# Altium footprint library LABLIB.PcbLib: 213 footprints (part 12 of 14)
Each footprint in its own frame and in the unit in brackets; x right, y up, seen from the top. Pads: shape width x height; smd on the part's side, far side on the other; paste and mask are expansions set on the pad; w line width, h text height; cw(c..) or ccw(c..) is an arc to the next point about the centre after c.
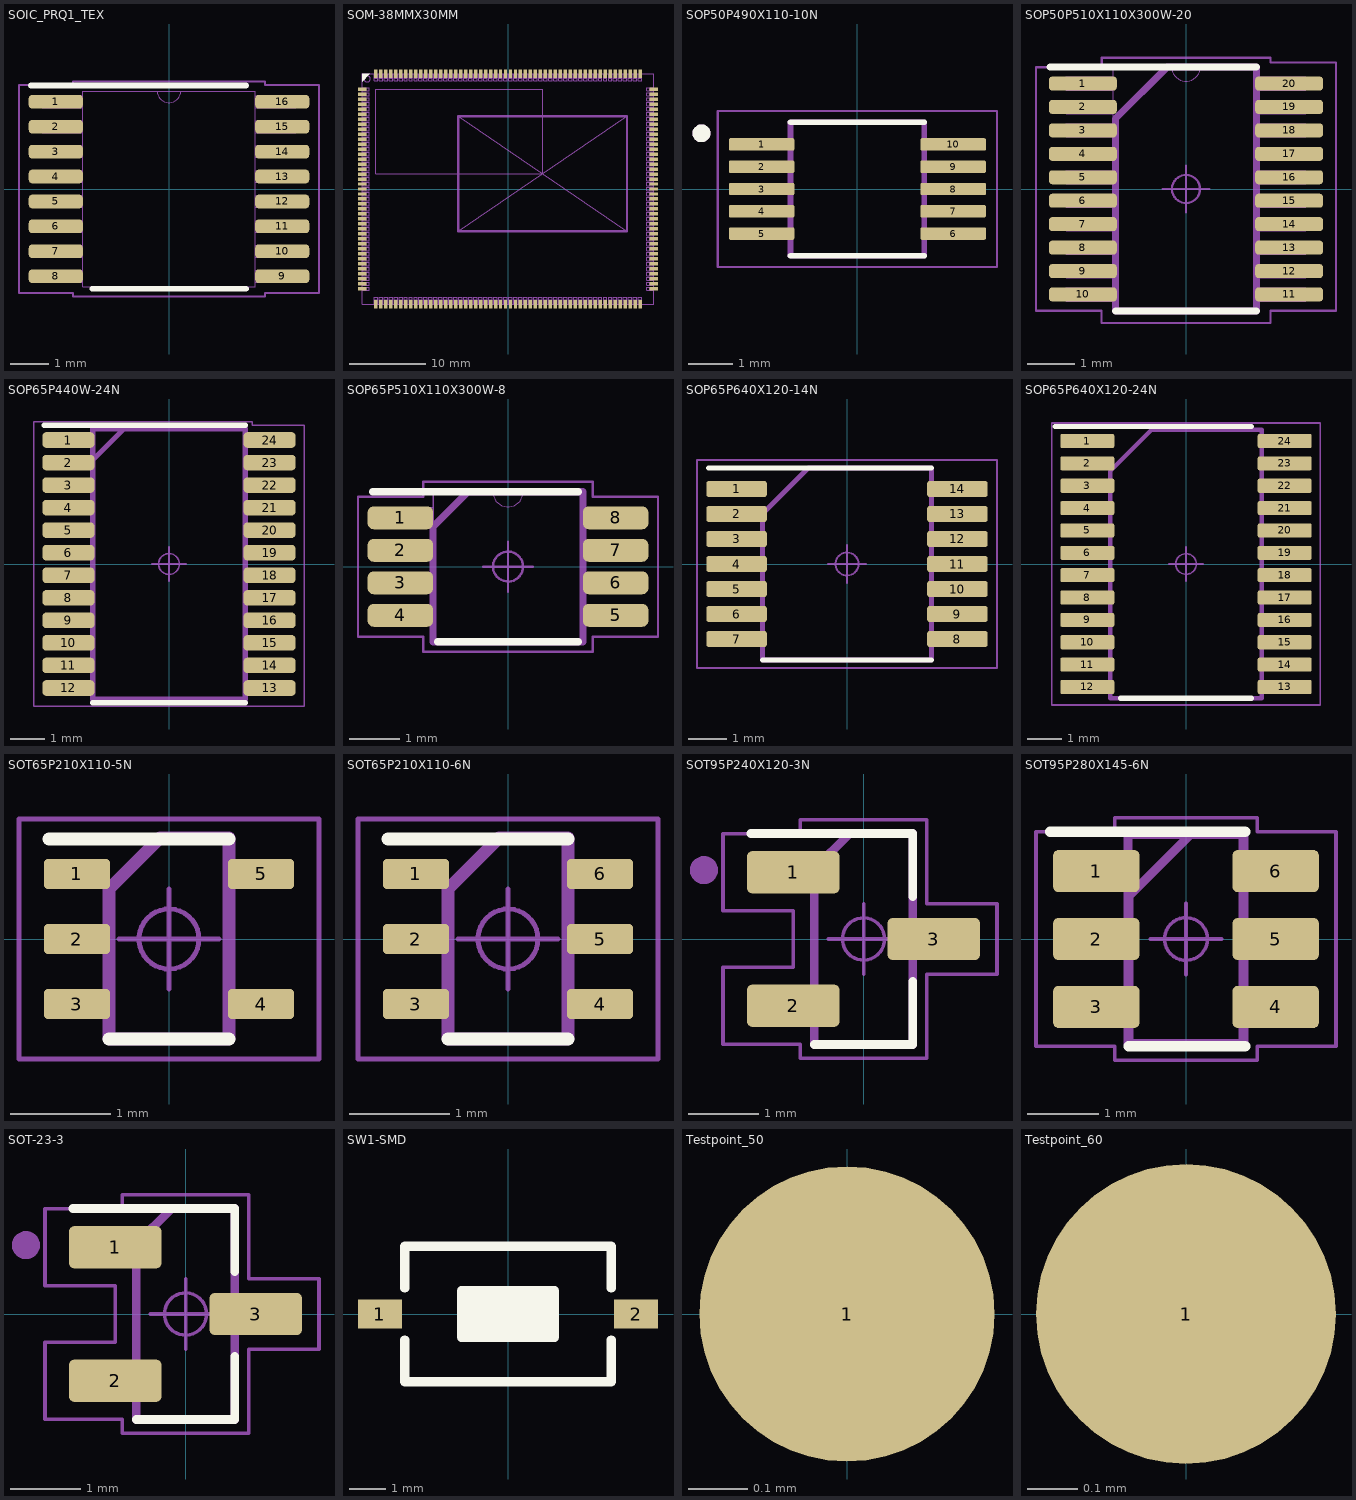
[diagram p11: the footprints below, top view; thin cyan lines are the x and y axes]

## SOIC_PRQ1_TEX [mil]
pads (16):
  rrect50% 55.5x14 smd mask+1.97: 1(-116.25,89.56) 2(-116.25,63.98) 3(-116.25,38.38) 4(-116.25,12.79) 5(-116.25,-12.79) 6(-116.25,-38.38) 7(-116.25,-63.98) 8(-116.25,-89.56) 9(116.25,-89.56) 10(116.25,-63.98) 11(116.25,-38.38) 12(116.25,-12.79) 13(116.25,12.79) 14(116.25,38.38) 15(116.25,63.98) 16(116.25,89.56)
Top Overlay:
  lines w6: -141.73,106.3 79.1,106.3 ; -78.74,-102.36 79.1,-102.36
Top Assembly:
  lines w0: -12,100.5 ccw(c0,100.5) 12,100.5
  lines w1: -130,-95.56 -130,-83.56 -88.5,-83.56 -88.5,-95.56 -130,-95.56 ; -130,-69.97 -88.5,-69.97 -88.5,-57.98 -130,-57.98 -130,-69.97 ; -130,-44.38 -130,-32.38 -88.5,-32.38 -88.5,-44.38 -130,-44.38 ; -130,-18.8 -130,-6.79 -88.5,-6.79 -88.5,-18.8 -130,-18.8 ; -130,6.79 -88.5,6.79 -88.5,18.8 -130,18.8 -130,6.79 ; -130,32.38 -130,44.38 -88.5,44.38 -88.5,32.38 -130,32.38 ; -130,57.98 -130,69.97 -88.5,69.97 -88.5,57.98 -130,57.98 ; -130,83.56 -130,95.56 -88.5,95.56 -88.5,83.56 -130,83.56 ; -88.5,-100.5 88.5,-100.5 88.5,100.5 -88.5,100.5 -88.5,-100.5 ; 88.5,-95.56 130,-95.56 130,-83.56 88.5,-83.56 88.5,-95.56 ; 88.5,-69.97 88.5,-57.98 130,-57.98 130,-69.97 88.5,-69.97 ; 88.5,-44.38 88.5,-32.38 130,-32.38 130,-44.38 88.5,-44.38 ; 88.5,-18.8 130,-18.8 130,-6.79 88.5,-6.79 88.5,-18.8 ; 88.5,6.79 88.5,18.8 130,18.8 130,6.79 88.5,6.79 ; 88.5,32.38 88.5,44.38 130,44.38 130,32.38 88.5,32.38 ; 88.5,57.98 130,57.98 130,69.97 88.5,69.97 88.5,57.98 ; 88.5,83.56 88.5,95.56 130,95.56 130,83.56 88.5,83.56
Top Courtyard:
  lines w1.97: -154,-106.56 -98.5,-106.56 -98.5,-110.5 98.5,-110.5 98.5,-106.56 154,-106.56 154,106.56 98.5,106.56 98.5,110.5 -98.5,110.5 -98.5,106.56 -154,106.56 -154,-106.56
3D body "SOIC_PRQ1_TEX.step": height 47.09, standoff 0, extent -130,-100.51 130,100.51

## SOM-38MMX30MM [mm] "190-Castellated thru-holes, 38mm x 30mm package"
pads (190):
  rect 1.1x0.45 smd mask+0.05: 1(-19,13) 2(-19,12.35) 3(-19,11.7) 4(-19,11.05) 5(-19,10.4) 6(-19,9.75) 7(-19,9.1) 8(-19,8.45) 9(-19,7.8) 10(-19,7.15) 11(-19,6.5) 12(-19,5.85) 13(-19,5.2) 14(-19,4.55) 15(-19,3.9) 16(-19,3.25) 17(-19,2.6) 18(-19,1.95) 19(-19,1.3) 20(-19,0.65) 21(-19,0) 22(-19,-0.65) 23(-19,-1.3) 24(-19,-1.95) 25(-19,-2.6) 26(-19,-3.25) 27(-19,-3.9) 28(-19,-4.55) 29(-19,-5.2) 30(-19,-5.85) 31(-19,-6.5) 32(-19,-7.15) 33(-19,-7.8) 34(-19,-8.45) 35(-19,-9.1) 36(-19,-9.75) 37(-19,-10.4) 38(-19,-11.05) 39(-19,-11.7) 40(-19,-12.35) 41(-19,-13) 96(19,-13) 97(19,-12.35) 98(19,-11.7) 99(19,-11.05) 100(19,-10.4) 101(19,-9.75) 102(19,-9.1) 103(19,-8.45) 104(19,-7.8) 105(19,-7.15) 106(19,-6.5) 107(19,-5.85) 108(19,-5.2) 109(19,-4.55) 110(19,-3.9) 111(19,-3.25) 112(19,-2.6) 113(19,-1.95) 114(19,-1.3) 115(19,-0.65) 116(19,0) 117(19,0.65) 118(19,1.3) 119(19,1.95) 120(19,2.6) 121(19,3.25) 122(19,3.9) 123(19,4.55) 124(19,5.2) 125(19,5.85) 126(19,6.5) 127(19,7.15) 128(19,7.8) 129(19,8.45) 130(19,9.1) 131(19,9.75) 132(19,10.4) 133(19,11.05) 134(19,11.7) 135(19,12.35) 136(19,13)
  rect 0.45x1.1 smd mask+0.05: 42(-17.225,-15) 43(-16.575,-15) 44(-15.925,-15) 45(-15.275,-15) 46(-14.625,-15) 47(-13.975,-15) 48(-13.325,-15) 49(-12.675,-15) 50(-12.025,-15) 51(-11.375,-15) 52(-10.725,-15) 53(-10.075,-15) 54(-9.425,-15) 55(-8.775,-15) 56(-8.125,-15) 57(-7.475,-15) 58(-6.825,-15) 59(-6.175,-15) 60(-5.525,-15) 61(-4.875,-15) 62(-4.225,-15) 63(-3.575,-15) 64(-2.925,-15) 65(-2.275,-15) 66(-1.625,-15) 67(-0.975,-15) 68(-0.325,-15) 69(0.325,-15) 70(0.975,-15) 71(1.625,-15) 72(2.275,-15) 73(2.925,-15) 74(3.575,-15) 75(4.225,-15) 76(4.875,-15) 77(5.525,-15) 78(6.175,-15) 79(6.825,-15) 80(7.475,-15) 81(8.125,-15) 82(8.775,-15) 83(9.425,-15) 84(10.075,-15) 85(10.725,-15) 86(11.375,-15) 87(12.025,-15) 88(12.675,-15) 89(13.325,-15) 90(13.975,-15) 91(14.625,-15) 92(15.275,-15) 93(15.925,-15) 94(16.575,-15) 95(17.225,-15) 137(17.225,15) 138(16.575,15) 139(15.925,15) 140(15.275,15) 141(14.625,15) 142(13.975,15) 143(13.325,15) 144(12.675,15) 145(12.025,15) 146(11.375,15) 147(10.725,15) 148(10.075,15) 149(9.425,15) 150(8.775,15) 151(8.125,15) 152(7.475,15) 153(6.825,15) 154(6.175,15) 155(5.525,15) 156(4.875,15) 157(4.225,15) 158(3.575,15) 159(2.925,15) 160(2.275,15) 161(1.625,15) 162(0.975,15) 163(0.325,15) 164(-0.325,15) 165(-0.975,15) 166(-1.625,15) 167(-2.275,15) 168(-2.925,15) 169(-3.575,15) 170(-4.225,15) 171(-4.875,15) 172(-5.525,15) 173(-6.175,15) 174(-6.825,15) 175(-7.475,15) 176(-8.125,15) 177(-8.775,15) 178(-9.425,15) 179(-10.075,15) 180(-10.725,15) 181(-11.375,15) 182(-12.025,15) 183(-12.675,15) 184(-13.325,15) 185(-13.975,15) 186(-14.625,15) 187(-15.275,15) 188(-15.925,15) 189(-16.575,15) 190(-17.225,15)
Top Overlay:
  region: -19,15 -18,15 -19,14
Top Component Center:
  drawing of 764 lines, arcs and shapes, not listed
Bottom Component Center:
  drawing of 765 lines, arcs and shapes, not listed
  text "1" at -18.35,12.775 h0.45
  text "41" at -18.35,-13.225 h0.45
  text "42" at -17.6,-14.4 h0.45
  text "95" at 16.85,-14.4 h0.45
  text "96" at 17.65,-13.225 h0.45
  text "136" at 17.35,12.775 h0.45
  text "137" at 16.725,13.9 h0.45
  text "190" at -17.725,13.9 h0.45
Mechanical 12:
  lines w0: -6.5,-5.5 15.5,9.5 ; -6.5,9.5 15.5,-5.5 ; -17.225,2 -17.225,13 4.5,13 4.5,2 -17.225,2
Mech_KEEPOUT:
  lines w0.3: -6.5,-5.5 -6.5,9.5 15.5,9.5 15.5,-5.5 -6.5,-5.5
3D body: height 0.04, standoff 0, extent -17.45,14.45 -17,15
3D body: height 0.04, standoff 0, extent -16.8,14.45 -16.35,15
3D body: height 0.04, standoff 0, extent -16.15,14.45 -15.7,15
3D body: height 0.04, standoff 0, extent -15.5,14.45 -15.05,15
3D body: height 0.04, standoff 0, extent -14.85,14.45 -14.4,15
3D body: height 0.04, standoff 0, extent -14.2,14.45 -13.75,15
3D body: height 0.04, standoff 0, extent -13.55,14.45 -13.1,15
3D body: height 0.04, standoff 0, extent -12.9,14.45 -12.45,15
3D body: height 0.04, standoff 0, extent -12.25,14.45 -11.8,15
3D body: height 0.04, standoff 0, extent -11.6,14.45 -11.15,15
3D body: height 0.04, standoff 0, extent -10.95,14.45 -10.5,15
3D body: height 0.04, standoff 0, extent -10.3,14.45 -9.85,15
3D body: height 0.04, standoff 0, extent -9.65,14.45 -9.2,15
3D body: height 0.04, standoff 0, extent -9,14.45 -8.55,15
3D body: height 0.04, standoff 0, extent -8.35,14.45 -7.9,15
3D body: height 0.04, standoff 0, extent -7.7,14.45 -7.25,15
3D body: height 0.04, standoff 0, extent -7.05,14.45 -6.6,15
3D body: height 0.04, standoff 0, extent -6.4,14.45 -5.95,15
3D body: height 0.04, standoff 0, extent -5.75,14.45 -5.3,15
3D body: height 0.04, standoff 0, extent -5.1,14.45 -4.65,15
3D body: height 0.04, standoff 0, extent -4.45,14.45 -4,15
3D body: height 0.04, standoff 0, extent -3.8,14.45 -3.35,15
3D body: height 0.04, standoff 0, extent -3.15,14.45 -2.7,15
3D body: height 0.04, standoff 0, extent -2.5,14.45 -2.05,15
3D body: height 0.04, standoff 0, extent -1.85,14.45 -1.4,15
3D body: height 0.04, standoff 0, extent -1.2,14.45 -0.75,15
3D body: height 0.04, standoff 0, extent -0.55,14.45 -0.1,15
3D body: height 0.04, standoff 0, extent 0.1,14.45 0.55,15
3D body: height 0.04, standoff 0, extent 0.75,14.45 1.2,15
3D body: height 0.04, standoff 0, extent 1.4,14.45 1.85,15
3D body: height 0.04, standoff 0, extent 2.05,14.45 2.5,15
3D body: height 0.04, standoff 0, extent 2.7,14.45 3.15,15
3D body: height 0.04, standoff 0, extent 3.35,14.45 3.8,15
3D body: height 0.04, standoff 0, extent 4,14.45 4.45,15
3D body: height 0.04, standoff 0, extent 4.65,14.45 5.1,15
3D body: height 0.04, standoff 0, extent 5.3,14.45 5.75,15
3D body: height 0.04, standoff 0, extent 5.95,14.45 6.4,15
3D body: height 0.04, standoff 0, extent 6.6,14.45 7.05,15
3D body: height 0.04, standoff 0, extent 7.25,14.45 7.7,15
3D body: height 0.04, standoff 0, extent 7.9,14.45 8.35,15
3D body: height 0.04, standoff 0, extent 8.55,14.45 9,15
3D body: height 0.04, standoff 0, extent 9.2,14.45 9.65,15
3D body: height 0.04, standoff 0, extent 9.85,14.45 10.3,15
3D body: height 0.04, standoff 0, extent 10.5,14.45 10.95,15
3D body: height 0.04, standoff 0, extent 11.15,14.45 11.6,15
3D body: height 0.04, standoff 0, extent 11.8,14.45 12.25,15
3D body: height 0.04, standoff 0, extent 12.45,14.45 12.9,15
3D body: height 0.04, standoff 0, extent 13.1,14.45 13.55,15
3D body: height 0.04, standoff 0, extent 13.75,14.45 14.2,15
3D body: height 0.04, standoff 0, extent 14.4,14.45 14.85,15
3D body: height 0.04, standoff 0, extent 15.05,14.45 15.5,15
3D body: height 0.04, standoff 0, extent 15.7,14.45 16.15,15
3D body: height 0.04, standoff 0, extent 16.35,14.45 16.8,15
3D body: height 0.04, standoff 0, extent 17,14.45 17.45,15
3D body: height 0.04, standoff 0, extent -19,-11.275 -18.45,-10.825
3D body: height 0.04, standoff 0, extent -19,-10.625 -18.45,-10.175
3D body: height 0.04, standoff 0, extent -19,-9.975 -18.45,-9.525
3D body: height 0.04, standoff 0, extent -19,-9.325 -18.45,-8.875
3D body: height 0.04, standoff 0, extent -19,-8.675 -18.45,-8.225
3D body: height 0.04, standoff 0, extent -19,-8.025 -18.45,-7.575
3D body: height 0.04, standoff 0, extent -19,-7.375 -18.45,-6.925
3D body: height 0.04, standoff 0, extent -19,-6.725 -18.45,-6.275
3D body: height 0.04, standoff 0, extent -19,-6.075 -18.45,-5.625
3D body: height 0.04, standoff 0, extent -19,-5.425 -18.45,-4.975
3D body: height 0.04, standoff 0, extent -19,-4.775 -18.45,-4.325
3D body: height 0.04, standoff 0, extent -19,-4.125 -18.45,-3.675
3D body: height 0.04, standoff 0, extent -19,-3.475 -18.45,-3.025
3D body: height 0.04, standoff 0, extent -19,-2.825 -18.45,-2.375
3D body: height 0.04, standoff 0, extent -19,-2.175 -18.45,-1.725
3D body: height 0.04, standoff 0, extent -19,-1.525 -18.45,-1.075
3D body: height 0.04, standoff 0, extent -19,-0.875 -18.45,-0.425
3D body: height 0.04, standoff 0, extent -19,-0.225 -18.45,0.225
3D body: height 0.04, standoff 0, extent -19,0.425 -18.45,0.875
3D body: height 0.04, standoff 0, extent -19,1.075 -18.45,1.525
3D body: height 0.04, standoff 0, extent -19,1.725 -18.45,2.175
3D body: height 0.04, standoff 0, extent -19,2.375 -18.45,2.825
3D body: height 0.04, standoff 0, extent -19,3.025 -18.45,3.475
3D body: height 0.04, standoff 0, extent -19,3.675 -18.45,4.125
3D body: height 0.04, standoff 0, extent -19,4.325 -18.45,4.775
3D body: height 0.04, standoff 0, extent -19,4.975 -18.45,5.425
3D body: height 0.04, standoff 0, extent -19,5.625 -18.45,6.075
3D body: height 0.04, standoff 0, extent -19,6.275 -18.45,6.725
3D body: height 0.04, standoff 0, extent -19,6.925 -18.45,7.375
3D body: height 0.04, standoff 0, extent -19,7.575 -18.45,8.025
3D body: height 0.04, standoff 0, extent -19,8.225 -18.45,8.675
3D body: height 0.04, standoff 0, extent -19,8.875 -18.45,9.325
3D body: height 0.04, standoff 0, extent -19,9.525 -18.45,9.975
3D body: height 0.04, standoff 0, extent -19,10.175 -18.45,10.625
3D body: height 0.04, standoff 0, extent -19,10.825 -18.45,11.275
3D body: height 0.04, standoff 0, extent -19,11.475 -18.45,11.925
3D body: height 0.04, standoff 0, extent -19,12.125 -18.45,12.575
3D body: height 0.04, standoff 0, extent -19,12.775 -18.45,13.225
3D body: height 0.04, standoff 0, extent -19,14 -18,15
3D body: height 0.04, standoff 0, extent -19,-11.925 -18.45,-11.475
3D body: height 0.04, standoff 0, extent -19,-12.575 -18.45,-12.125
3D body: height 0.04, standoff 0, extent -19,-13.225 -18.45,-12.775
3D body: height 0.04, standoff 0, extent 18.45,-13.225 19,-12.775
3D body: height 0.04, standoff 0, extent 18.45,-12.575 19,-12.125
3D body: height 0.04, standoff 0, extent 18.45,-11.925 19,-11.475
3D body: height 0.04, standoff 0, extent 18.45,-11.275 19,-10.825
3D body: height 0.04, standoff 0, extent 18.45,-10.625 19,-10.175
3D body: height 0.04, standoff 0, extent 18.45,-9.975 19,-9.525
3D body: height 0.04, standoff 0, extent 18.45,-9.325 19,-8.875
3D body: height 0.04, standoff 0, extent 18.45,-8.675 19,-8.225
3D body: height 0.04, standoff 0, extent 18.45,-8.025 19,-7.575
3D body: height 0.04, standoff 0, extent 18.45,-7.375 19,-6.925
3D body: height 0.04, standoff 0, extent 18.45,-6.725 19,-6.275
3D body: height 0.04, standoff 0, extent 18.45,-6.075 19,-5.625
3D body: height 0.04, standoff 0, extent 18.45,-5.425 19,-4.975
3D body: height 0.04, standoff 0, extent 18.45,-4.775 19,-4.325
3D body: height 0.04, standoff 0, extent 18.45,-4.125 19,-3.675
3D body: height 0.04, standoff 0, extent 18.45,-3.475 19,-3.025
3D body: height 0.04, standoff 0, extent 18.45,-2.825 19,-2.375
3D body: height 0.04, standoff 0, extent 18.45,-2.175 19,-1.725
3D body: height 0.04, standoff 0, extent 18.45,-1.525 19,-1.075
3D body: height 0.04, standoff 0, extent 18.45,-0.875 19,-0.425
3D body: height 0.04, standoff 0, extent 18.45,-0.225 19,0.225
3D body: height 0.04, standoff 0, extent 18.45,0.425 19,0.875
3D body: height 0.04, standoff 0, extent 18.45,1.075 19,1.525
3D body: height 0.04, standoff 0, extent 18.45,1.725 19,2.175
3D body: height 0.04, standoff 0, extent 18.45,2.375 19,2.825
3D body: height 0.04, standoff 0, extent 18.45,3.025 19,3.475
3D body: height 0.04, standoff 0, extent 18.45,3.675 19,4.125
3D body: height 0.04, standoff 0, extent 18.45,4.325 19,4.775
3D body: height 0.04, standoff 0, extent 18.45,4.975 19,5.425
3D body: height 0.04, standoff 0, extent 18.45,5.625 19,6.075
3D body: height 0.04, standoff 0, extent 18.45,6.275 19,6.725
3D body: height 0.04, standoff 0, extent 18.45,6.925 19,7.375
3D body: height 0.04, standoff 0, extent 18.45,7.575 19,8.025
3D body: height 0.04, standoff 0, extent 18.45,8.225 19,8.675
3D body: height 0.04, standoff 0, extent 18.45,8.875 19,9.325
3D body: height 0.04, standoff 0, extent 18.45,9.525 19,9.975
3D body: height 0.04, standoff 0, extent 18.45,10.175 19,10.625
3D body: height 0.04, standoff 0, extent 18.45,10.825 19,11.275
3D body: height 0.04, standoff 0, extent 18.45,11.475 19,11.925
3D body: height 0.04, standoff 0, extent 18.45,12.125 19,12.575
3D body: height 0.04, standoff 0, extent 18.45,12.775 19,13.225
3D body: height 0.04, standoff 0, extent -17.45,-15 -17,-14.45
3D body: height 0.04, standoff 0, extent -16.8,-15 -16.35,-14.45
3D body: height 0.04, standoff 0, extent -16.15,-15 -15.7,-14.45
3D body: height 0.04, standoff 0, extent -15.5,-15 -15.05,-14.45
3D body: height 0.04, standoff 0, extent -14.85,-15 -14.4,-14.45
3D body: height 0.04, standoff 0, extent -14.2,-15 -13.75,-14.45
3D body: height 0.04, standoff 0, extent -13.55,-15 -13.1,-14.45
3D body: height 0.04, standoff 0, extent -12.9,-15 -12.45,-14.45
3D body: height 0.04, standoff 0, extent -12.25,-15 -11.8,-14.45
3D body: height 0.04, standoff 0, extent -11.6,-15 -11.15,-14.45
3D body: height 0.04, standoff 0, extent -10.95,-15 -10.5,-14.45
3D body: height 0.04, standoff 0, extent -10.3,-15 -9.85,-14.45
3D body: height 0.04, standoff 0, extent -9.65,-15 -9.2,-14.45
3D body: height 0.04, standoff 0, extent -9,-15 -8.55,-14.45
3D body: height 0.04, standoff 0, extent -8.35,-15 -7.9,-14.45
3D body: height 0.04, standoff 0, extent -7.7,-15 -7.25,-14.45
3D body: height 0.04, standoff 0, extent -7.05,-15 -6.6,-14.45
3D body: height 0.04, standoff 0, extent -6.4,-15 -5.95,-14.45
3D body: height 0.04, standoff 0, extent -5.75,-15 -5.3,-14.45
3D body: height 0.04, standoff 0, extent -5.1,-15 -4.65,-14.45
3D body: height 0.04, standoff 0, extent -4.45,-15 -4,-14.45
3D body: height 0.04, standoff 0, extent -3.8,-15 -3.35,-14.45
3D body: height 0.04, standoff 0, extent -3.15,-15 -2.7,-14.45
3D body: height 0.04, standoff 0, extent -2.5,-15 -2.05,-14.45
3D body: height 0.04, standoff 0, extent -1.85,-15 -1.4,-14.45
3D body: height 0.04, standoff 0, extent -1.2,-15 -0.75,-14.45
3D body: height 0.04, standoff 0, extent -0.55,-15 -0.1,-14.45
3D body: height 0.04, standoff 0, extent 0.1,-15 0.55,-14.45
3D body: height 0.04, standoff 0, extent 0.75,-15 1.2,-14.45
3D body: height 0.04, standoff 0, extent 1.4,-15 1.85,-14.45
3D body: height 0.04, standoff 0, extent 2.05,-15 2.5,-14.45
3D body: height 0.04, standoff 0, extent 2.7,-15 3.15,-14.45
3D body: height 0.04, standoff 0, extent 3.35,-15 3.8,-14.45
3D body: height 0.04, standoff 0, extent 4,-15 4.45,-14.45
3D body: height 0.04, standoff 0, extent 4.65,-15 5.1,-14.45
3D body: height 0.04, standoff 0, extent 5.3,-15 5.75,-14.45
3D body: height 0.04, standoff 0, extent 5.95,-15 6.4,-14.45
3D body: height 0.04, standoff 0, extent 6.6,-15 7.05,-14.45
3D body: height 0.04, standoff 0, extent 7.25,-15 7.7,-14.45
3D body: height 0.04, standoff 0, extent 7.9,-15 8.35,-14.45
3D body: height 0.04, standoff 0, extent 8.55,-15 9,-14.45
3D body: height 0.04, standoff 0, extent 9.2,-15 9.65,-14.45
3D body: height 0.04, standoff 0, extent 9.85,-15 10.3,-14.45
3D body: height 0.04, standoff 0, extent 10.5,-15 10.95,-14.45
3D body: height 0.04, standoff 0, extent 11.15,-15 11.6,-14.45
3D body: height 0.04, standoff 0, extent 11.8,-15 12.25,-14.45
3D body: height 0.04, standoff 0, extent 12.45,-15 12.9,-14.45
3D body: height 0.04, standoff 0, extent 13.1,-15 13.55,-14.45
3D body: height 0.04, standoff 0, extent 13.75,-15 14.2,-14.45
3D body: height 0.04, standoff 0, extent 14.4,-15 14.85,-14.45
3D body: height 0.04, standoff 0, extent 15.05,-15 15.5,-14.45
3D body: height 0.04, standoff 0, extent 15.7,-15 16.15,-14.45
3D body: height 0.04, standoff 0, extent 16.35,-15 16.8,-14.45
3D body: height 0.04, standoff 0, extent 17,-15 17.45,-14.45
3D body "SAMA7G54-SOM.step": height 2.95, standoff -0.22, extent -19,-15 19,15

## SOP50P490X110-10N [mm]
pads (10):
  rrect25% 1.47x0.28 smd: 1(-2.15,1) 2(-2.15,0.5) 3(-2.15,0) 4(-2.15,-0.5) 5(-2.15,-1) 6(2.15,-1) 7(2.15,-0.5) 8(2.15,0) 9(2.15,0.5) 10(2.15,1)
Top Overlay:
  circle w0.2: c-3.5,1.25 r0.1
  lines w0.127: -1.5,-1.5 1.5,-1.5 ; -1.5,1.5 1.5,1.5
Mechanical 13:
  circle w0.2: c-3.5,1.25 r0.1
  lines w0.127: -1.5,-1.5 1.5,-1.5 1.5,1.5 -1.5,1.5 -1.5,-1.5
Mechanical 15:
  lines w0.05: -3.135,-1.75 3.135,-1.75 3.135,1.75 -3.135,1.75 -3.135,-1.75
3D body "step_temp.STEP": height 1.1, standoff 0, extent -2.45,-1.5 2.45,1.5

## SOP50P510X110X300W-20 [mm]
pads (20):
  rrect50% 1.45x0.3 smd paste+0 mask+0: 1(-2.2,2.25) 2(-2.2,1.75) 3(-2.2,1.25) 4(-2.2,0.75) 5(-2.2,0.25) 6(-2.2,-0.25) 7(-2.2,-0.75) 8(-2.2,-1.25) 9(-2.2,-1.75) 10(-2.2,-2.25) 11(2.2,-2.25) 12(2.2,-1.75) 13(2.2,-1.25) 14(2.2,-0.75) 15(2.2,-0.25) 16(2.2,0.25) 17(2.2,0.75) 18(2.2,1.25) 19(2.2,1.75) 20(2.2,2.25)
Top Overlay:
  lines w0.15: -2.9,2.6 1.5,2.6 ; -1.5,-2.6 1.5,-2.6
Top Assembly:
  lines w0.15: -1.5,-2.6 -1.5,1.5 -0.4,2.6 1.5,2.6 1.5,-2.6 -1.5,-2.6
  text "'.Designator'" at -3.952,-0.622 h1.5
Top Courtyard:
  lines w0.05: -3.2,-2.6 -1.803,-2.6 -1.803,-2.857 1.803,-2.857 1.803,-2.6 3.2,-2.6 3.2,2.7 1.803,2.7 1.803,2.8 -1.8,2.8 -1.8,2.6 -3.2,2.6 -3.2,-2.6
Top Component Outline:
  lines w0: -0.305,2.603 ccw(c0,2.603) 0.305,2.603
  lines w0.025: -2.553,-2.39 -1.549,-2.39 -1.549,-2.11 -2.553,-2.11 -2.553,-2.39 ; -2.553,-1.89 -1.549,-1.89 -1.549,-1.61 -2.553,-1.61 -2.553,-1.89 ; -2.553,-1.39 -1.549,-1.39 -1.549,-1.11 -2.553,-1.11 -2.553,-1.39 ; -2.553,-0.89 -1.549,-0.89 -1.549,-0.61 -2.553,-0.61 -2.553,-0.89 ; -2.553,-0.39 -2.553,-0.11 -1.549,-0.11 -1.549,-0.39 -2.553,-0.39 ; -2.553,0.11 -1.549,0.11 -1.549,0.39 -2.553,0.39 -2.553,0.11 ; -2.553,0.61 -1.549,0.61 -1.549,0.89 -2.553,0.89 -2.553,0.61 ; -2.553,1.11 -2.553,1.39 -1.549,1.39 -1.549,1.11 -2.553,1.11 ; -2.553,1.61 -1.549,1.61 -1.549,1.89 -2.553,1.89 -2.553,1.61 ; -2.553,2.11 -1.549,2.11 -1.549,2.39 -2.553,2.39 -2.553,2.11 ; -1.549,-2.603 -1.549,2.603 1.549,2.603 1.549,-2.603 -1.549,-2.603 ; 1.549,-2.39 2.553,-2.39 2.553,-2.11 1.549,-2.11 1.549,-2.39 ; 1.549,-1.89 2.553,-1.89 2.553,-1.61 1.549,-1.61 1.549,-1.89 ; 1.549,-1.39 2.553,-1.39 2.553,-1.11 1.549,-1.11 1.549,-1.39 ; 1.549,-0.89 2.553,-0.89 2.553,-0.61 1.549,-0.61 1.549,-0.89 ; 1.549,-0.39 1.549,-0.11 2.553,-0.11 2.553,-0.39 1.549,-0.39 ; 1.549,0.11 2.553,0.11 2.553,0.39 1.549,0.39 1.549,0.11 ; 1.549,0.61 2.553,0.61 2.553,0.89 1.549,0.89 1.549,0.61 ; 1.549,1.11 1.549,1.39 2.553,1.39 2.553,1.11 1.549,1.11 ; 1.549,1.61 2.553,1.61 2.553,1.89 1.549,1.89 1.549,1.61 ; 1.549,2.11 2.553,2.11 2.553,2.39 1.549,2.39 1.549,2.11
Top Component Center:
  circle w0.05: c0,0 r0.3
  lines w0.05: -0.5,0 0.5,0 ; 0,-0.5 0,0.5
3D body "DGS0020A_TEX.step": height 1.09, standoff 0, extent -2.553,-2.604 2.553,2.604

## SOP65P440W-24N [mm] "TSSOP-24 4.40mm Width"
pads (24):
  rrect50% 1.5x0.45 smd: 1(-2.9,3.575) 2(-2.9,2.925) 3(-2.9,2.275) 4(-2.9,1.625) 5(-2.9,0.975) 6(-2.9,0.325) 7(-2.9,-0.325) 8(-2.9,-0.975) 9(-2.9,-1.625) 10(-2.9,-2.275) 11(-2.9,-2.925) 12(-2.9,-3.575) 13(2.9,-3.575) 14(2.9,-2.925) 15(2.9,-2.275) 16(2.9,-1.625) 17(2.9,-0.975) 18(2.9,-0.325) 19(2.9,0.325) 20(2.9,0.975) 21(2.9,1.625) 22(2.9,2.275) 23(2.9,2.925) 24(2.9,3.575)
Top Overlay:
  lines w0.15: -3.6,4 2.2,4 ; -2.2,-4 2.2,-4
Top Assembly:
  lines w0.15: -2.2,-3.9 -2.2,3 -2.1,3.1 -1.3,3.9 2.2,3.9 2.2,-3.9 -2.2,-3.9
  text "'.Designator'" at -4.217,-0.664 h1.6
Top Courtyard:
  lines w0.05: -3.9,-4.1 -2.3,-4.1 2.4,-4.1 3.9,-4.1 3.9,4 2.4,4 2.4,4.1 -2.4,4.1 -3.6,4.1 -3.9,4.1 -3.9,-4.1
Top Component Outline:
  lines w0.15: -2.2,-3.9 -2.2,3.9 2.2,3.9 2.2,-3.9 -2.2,-3.9
Top Component Center:
  circle w0.05: c0,0 r0.3
  lines w0.05: -0.5,0 0.5,0 ; 0,-0.5 0,0.5
3D body "TCA6416APWR.step": height 1.2, standoff 0, extent -3.2,-3.9 3.2,3.9

## SOP65P510X110X300W-8 [mil]
pads (8):
  rrect50% 51.5x18 smd paste+0 mask+0: 1(-84.75,38.39) 2(-84.75,12.8) 3(-84.75,-12.8) 4(-84.75,-38.39) 5(84.75,-38.39) 6(84.75,-12.8) 7(84.75,12.8) 8(84.75,38.39)
Top Overlay:
  lines w5.91: -106.3,59.06 55.12,59.06 ; -55.12,-59.06 55.12,-59.06
Top Assembly:
  lines w5.91: -59.06,-59.06 -59.06,31.5 -31.5,59.06 59.06,59.06 59.06,-59.06 -59.06,-59.06
  text "'.Designator'" at -155.57,-24.48 h59.06
Top Courtyard:
  lines w1.97: -118.11,-55.12 -66.93,-55.12 -66.93,-66.93 66.93,-66.93 66.93,-55.12 118.11,-55.12 118.11,55.12 66.93,55.12 66.93,66.93 -66.93,66.93 -66.93,55.12 -118.11,55.12 -118.11,-55.12
Top Component Outline:
  lines w0: -12,59 ccw(c0,59) 12,59
  lines w1: -96.5,-46.39 -59,-46.39 -59,-30.39 -96.5,-30.39 -96.5,-46.39 ; -96.5,-20.8 -96.5,-4.8 -59,-4.8 -59,-20.8 -96.5,-20.8 ; -96.5,4.8 -59,4.8 -59,20.8 -96.5,20.8 -96.5,4.8 ; -96.5,30.39 -59,30.39 -59,46.39 -96.5,46.39 -96.5,30.39 ; -59,-59 59,-59 59,59 -59,59 -59,-59 ; 59,-46.39 59,-30.39 96.5,-30.39 96.5,-46.39 59,-46.39 ; 59,-20.8 59,-4.8 96.5,-4.8 96.5,-20.8 59,-20.8 ; 59,4.8 96.5,4.8 96.5,20.8 59,20.8 59,4.8 ; 59,30.39 96.5,30.39 96.5,46.39 59,46.39 59,30.39
Top Component Center:
  circle w1.97: c0,0 r11.81
  lines w1.97: -19.68,0 19.68,0 ; 0,-19.68 0,19.68
3D body "MSOP8_MS_MCH.step": height 43.11, standoff 0, extent -96.5,-59.02 96.5,59.02

## SOP65P640X120-14N [mm]
pads (14):
  rrect25% 1.57x0.41 smd: 1(-2.87,1.95) 2(-2.87,1.3) 3(-2.87,0.65) 4(-2.87,0) 5(-2.87,-0.65) 6(-2.87,-1.3) 7(-2.87,-1.95) 8(2.87,-1.95) 9(2.87,-1.3) 10(2.87,-0.65) 11(2.87,0) 12(2.87,0.65) 13(2.87,1.3) 14(2.87,1.95)
Top Overlay:
  lines w0.127: -3.6,2.5 2.2,2.5 ; -2.2,-2.5 2.2,-2.5
Top Assembly:
  lines w0.127: -2.2,-2.5 -2.2,1.3 -1,2.5 2.2,2.5 2.2,-2.5 -2.2,-2.5
  text "'.Designator'" at -3.952,-0.622 h1.5
Top Component Center:
  circle w0.05: c0,0 r0.3
  lines w0.05: -0.5,0 0.5,0 ; 0,-0.5 0,0.5
Mechanical 15:
  lines w0.05: -3.9,-2.7 3.9,-2.7 3.9,2.7 -3.9,2.7 -3.9,-2.7
3D body "step_temp.STEP": height 1.2, standoff 0, extent -3.2,-2.5 3.2,2.5

## SOP65P640X120-24N [mm]
height 1.2
pads (24):
  rrect25% 1.57x0.41 smd mask+0.05: 1(-2.87,3.575) 2(-2.87,2.925) 3(-2.87,2.275) 4(-2.87,1.625) 5(-2.87,0.975) 6(-2.87,0.325) 7(-2.87,-0.325) 8(-2.87,-0.975) 9(-2.87,-1.625) 10(-2.87,-2.275) 11(-2.87,-2.925) 12(-2.87,-3.575) 13(2.87,-3.575) 14(2.87,-2.925) 15(2.87,-2.275) 16(2.87,-1.625) 17(2.87,-0.975) 18(2.87,-0.325) 19(2.87,0.325) 20(2.87,0.975) 21(2.87,1.625) 22(2.87,2.275) 23(2.87,2.925) 24(2.87,3.575)
Top Overlay:
  lines w0.15: -3.8,4 1.9,4 ; -1.9,-3.9 1.9,-3.9
Top Assembly:
  lines w0.127: -2.2,-3.9 2.2,-3.9 2.2,3.9 -1,3.9 -2.2,2.7 -2.2,-3.9
  text "'.Designator'" at -3.952,-0.622 h1.5
Top Courtyard:
  lines w0.05: -3.9,-4.1 -3.9,4.1 3.9,4.1 3.9,-4.1 -3.9,-4.1
Top Component Center:
  circle w0.05: c0,0 r0.3
  lines w0.05: -0.5,0 0.5,0 ; 0,-0.5 0,0.5
3D body "step_temp.STEP": height 1.2, standoff 0, extent -3.2,-3.9 3.2,3.9

## SOT65P210X110-5N [mm]
pads (5):
  rrect25% 0.66x0.3 smd: 1(-0.92,0.65) 2(-0.92,0) 3(-0.92,-0.65) 4(0.92,-0.65) 5(0.92,0.65)
Top Overlay:
  lines w0.127: -1.2,1 0.6,1 ; -0.6,-1 0.6,-1
Top Assembly:
  lines w0.127: -0.6,-1 0.6,-1 0.6,1.009 -0.091,1.009 -0.6,0.5 -0.6,-1
  text "'.Designator'" at -3.952,-0.624 h1.5
Top Courtyard:
  lines w0.05: -1.5,-1.2 1.5,-1.2 1.5,1.2 -1.5,1.2 -1.5,-1.2
Top Component Center:
  circle w0.05: c0,0 r0.3
  lines w0.05: -0.5,0 0.5,0 ; 0,-0.5 0,0.5
3D body "step_temp.STEP": height 1.1, standoff 0, extent -1.05,-1 1.05,1

## SOT65P210X110-6N [mm]
pads (6):
  rrect25% 0.66x0.3 smd: 1(-0.92,0.65) 2(-0.92,0) 3(-0.92,-0.65) 4(0.92,-0.65) 5(0.92,0) 6(0.92,0.65)
Top Overlay:
  lines w0.127: -1.2,1 0.6,1 ; -0.6,-1 0.6,-1
Top Assembly:
  lines w0.127: -0.6,-1 -0.6,0.5 -0.091,1.009 0.6,1.009 0.6,-1 -0.6,-1
  text "'.Designator'" at -3.952,-0.624 h1.5
Top Courtyard:
  lines w0.05: -1.5,-1.2 -1.5,1.2 1.5,1.2 1.5,-1.2 -1.5,-1.2
Top Component Center:
  circle w0.05: c0,0 r0.3
  lines w0.05: -0.5,0 0.5,0 ; 0,-0.5 0,0.5
3D body "User Library-SC88-6.step": height 1.1, standoff 0, extent -1.1,-1 1.1,1

## SOT95P240X120-3N [mm]
height 1.2
pads (3):
  rrect25% 1.32x0.6 smd: 1(-1,0.95) 2(-1,-0.95) 3(1,0)
Top Overlay:
  lines w0.125: -1.6,1.5 0.6,1.5 0.7,1.5 0.7,0.6 ; -0.7,-1.5 0.7,-1.5 0.7,-0.6
Top Assembly:
  lines w0.125: -0.7,-1.5 0.7,-1.5 0.7,1.5 -0.2,1.5 -0.7,1 -0.7,-1.5
  text "'.Designator'" at -3.952,-0.622 h1.5
Top Courtyard:
  lines w0.05: -2,-1.5 -2,-0.4 -1,-0.4 -1,0.4 -2,0.4 -2,1.5 -0.9,1.5 -0.9,1.7 0.9,1.7 0.9,0.5 1.9,0.5 1.9,-0.5 0.9,-0.5 0.9,-1.7 -0.9,-1.7 -0.9,-1.5 -2,-1.5
Top Component Center:
  circle w0.05: c0,0 r0.3
  lines w0.05: -0.5,0 0.5,0 ; 0,-0.5 0,0.5
Mechanical 13:
  circle w0.2: c-2.27,0.98 r0.1
3D body "step_temp.STEP": height 1.2, standoff -0.1, extent -1.3,-1.52 1.3,1.52

## SOT95P280X145-6N [mm]
pads (6):
  rrect25% 1.21x0.59 smd: 1(-1.255,0.95) 2(-1.255,0) 3(-1.255,-0.95) 4(1.255,-0.95) 5(1.255,0) 6(1.255,0.95)
Top Overlay:
  lines w0.15: -1.9,1.5 0.825,1.5 ; -0.8,-1.5 0.825,-1.5
Top Assembly:
  lines w0.125: -0.8,-1.5 -0.8,0.6 0.1,1.5 0.8,1.5 0.8,-1.5 -0.8,-1.5
  text "'.Designator'" at -3.952,-0.622 h1.5
Top Courtyard:
  lines w0.05: -2.1,-1.5 -2.1,1.3 -2.1,1.5 -1,1.5 -1,1.7 1,1.7 1,1.5 2.1,1.5 2.1,-1.5 1,-1.5 1,-1.7 -1,-1.7 -1,-1.5 -2.1,-1.5
Top Component Center:
  circle w0.05: c0,0 r0.3
  lines w0.05: -0.5,0 0.5,0 ; 0,-0.5 0,0.5
Mechanical 13:
  lines w0.127: -0.813,-1.462 0.813,-1.462 0.813,1.462 -0.813,1.462 -0.813,-1.462
3D body "step_temp.STEP": height 1.4, standoff -0.05, extent -1.4,-1.462 1.4,1.462

## SOT-23-3 [mm]
height 2.6
pads (3):
  rrect25% 1.32x0.6 smd: 1(-1,0.95) 2(-1,-0.95) 3(1,0)
Top Overlay:
  lines w0.125: -1.6,1.5 0.6,1.5 0.7,1.5 0.7,0.6 ; -0.7,-1.5 0.7,-1.5 0.7,-0.6
Top Assembly:
  lines w0.125: -0.7,-1.5 -0.7,1 -0.2,1.5 0.7,1.5 0.7,-1.5 -0.7,-1.5
  text "'.Designator'" at -3.952,-0.622 h1.5
Top Courtyard:
  lines w0.05: -2,-1.5 -0.9,-1.5 -0.9,-1.7 0.9,-1.7 0.9,-0.5 1.9,-0.5 1.9,0.5 0.9,0.5 0.9,1.7 -0.9,1.7 -0.9,1.5 -2,1.5 -2,0.4 -1,0.4 -1,-0.4 -2,-0.4 -2,-1.5
Top Component Center:
  circle w0.05: c0,0 r0.3
  lines w0.05: -0.5,0 0.5,0 ; 0,-0.5 0,0.5
Mechanical 13:
  circle w0.2: c-2.27,0.98 r0.1
3D body "step_temp.STEP": height 1.2, standoff -0.1, extent -1.3,-1.52 1.3,1.52

## SW1-SMD [mm]
pads (2):
  rect 1.2x0.8 smd: 1(-3.5,0) 2(3.5,0)
Top Overlay:
  rectangle: -1.27,-0.635 1.27,0.635
  lines w0.254: -2.819,-0.711 -2.819,-1.854 2.819,-1.854 2.819,-0.711 ; -2.819,0.711 -2.819,1.854 2.819,1.854 2.819,0.711 ; -1.27,-0.635 1.27,-0.635 1.27,0.635 -1.27,0.635 -1.27,-0.635
3D body "User Library-Button-SMD.step": height 2.5, standoff 0, extent -3.05,-1.85 3.05,1.85

## Testpoint_50 [mm]
pads (1):
  round 0.5 smd paste-2539.97 mask+0: 1(0,0)

## Testpoint_60 [mm]
pads (1):
  round 0.6 smd paste-2539.97 mask+0: 1(0,0)